# Altium footprint library edgeConn.PcbLib: 3 footprints
Each footprint in its own frame and in the unit in brackets; x right, y up, seen from the top. Pads: shape width x height; smd on the part's side, far side on the other; paste and mask are expansions set on the pad; w line width, h text height; cw(c..) or ccw(c..) is an arc to the next point about the centre after c.
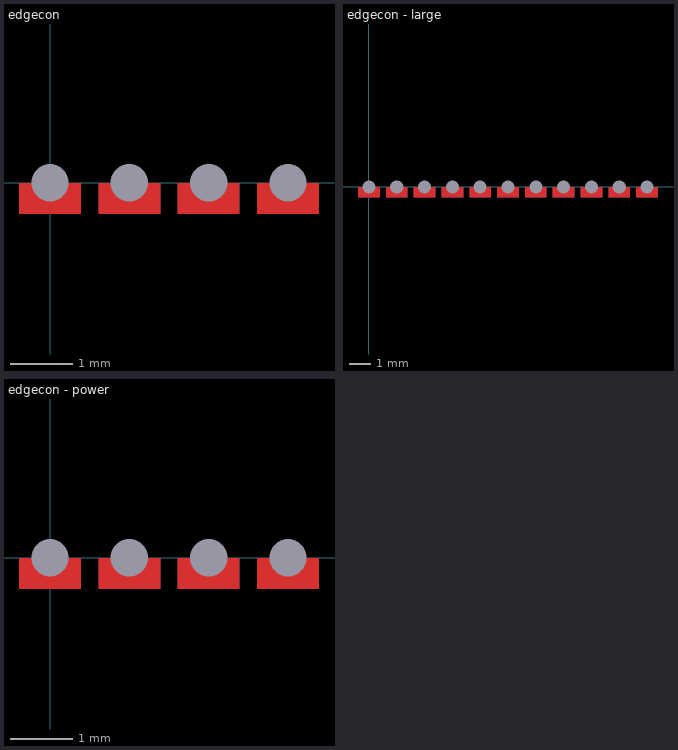
[diagram p0: the footprints below, top view; thin cyan lines are the x and y axes]

## edgecon [mil] "Connector; Header; 4 Position"
pads (4):
  round 1 hole 23.62 mask+0: 1(0,0) 2(50.2,0) 3(100.39,0) 4(150.59,0)
Top Layer:
  rectangle: 130.91,-19.68 170.28,0
  rectangle: 80.71,-19.68 120.08,0
  rectangle: -19.69,-19.68 19.68,0
  rectangle: 30.51,-19.68 69.88,0
Bottom Layer:
  rectangle: 130.91,-19.68 170.28,0
  rectangle: 80.71,-19.68 120.08,0
  rectangle: -19.69,-19.68 19.68,0
  rectangle: 30.51,-19.68 69.88,0

## edgecon - large [mil] "Connector; Header; 4 Position"
pads (11):
  round 1 hole 23.62 mask+0: 1(0,0) 2(50.2,0) 3(100.39,0) 4(150.59,0) 5(200.79,0) 6(250.98,0) 7(301.18,0) 8(351.38,0) 9(401.57,0) 10(451.77,0) 11(501.97,0)
Top Layer:
  rectangle: 482.28,-19.68 521.65,0
  rectangle: 381.89,-19.68 421.26,0
  rectangle: 432.09,-19.68 471.46,0
  rectangle: 331.69,-19.68 371.06,0
  rectangle: 281.5,-19.68 320.87,0
  rectangle: 181.1,-19.68 220.47,0
  rectangle: 231.3,-19.68 270.67,0
  rectangle: 30.51,-19.68 69.88,0
  rectangle: -19.69,-19.68 19.68,0
  rectangle: 80.71,-19.68 120.08,0
  rectangle: 130.91,-19.68 170.28,0
Bottom Layer:
  rectangle: 482.28,-19.68 521.65,0
  rectangle: 381.89,-19.68 421.26,0
  rectangle: 432.09,-19.68 471.46,0
  rectangle: 331.69,-19.68 371.06,0
  rectangle: 281.5,-19.68 320.87,0
  rectangle: 181.1,-19.68 220.47,0
  rectangle: 231.3,-19.68 270.67,0
  rectangle: 30.51,-19.68 69.88,0
  rectangle: -19.69,-19.68 19.68,0
  rectangle: 80.71,-19.68 120.08,0
  rectangle: 130.91,-19.68 170.28,0

## edgecon - power [mil] "Connector; Header; 4 Position"
pads (4):
  round 1 hole 23.62 mask+0: 1(0,0) 2(50.2,0) 3(100.39,0) 4(150.59,0)
Top Layer:
  rectangle: 30.51,-19.68 69.88,0
  rectangle: -19.69,-19.68 19.68,0
  rectangle: 80.71,-19.68 120.08,0
  rectangle: 130.91,-19.68 170.28,0
Bottom Layer:
  rectangle: 30.51,-19.68 69.88,0
  rectangle: -19.69,-19.68 19.68,0
  rectangle: 80.71,-19.68 120.08,0
  rectangle: 130.91,-19.68 170.28,0